# EAGLE library part MOLEX_SL_11 (library molex-sl-connectors_jw)
Molex SL-Series PCB Header, 11-Pos, 0.1" (2.54mm) Centers
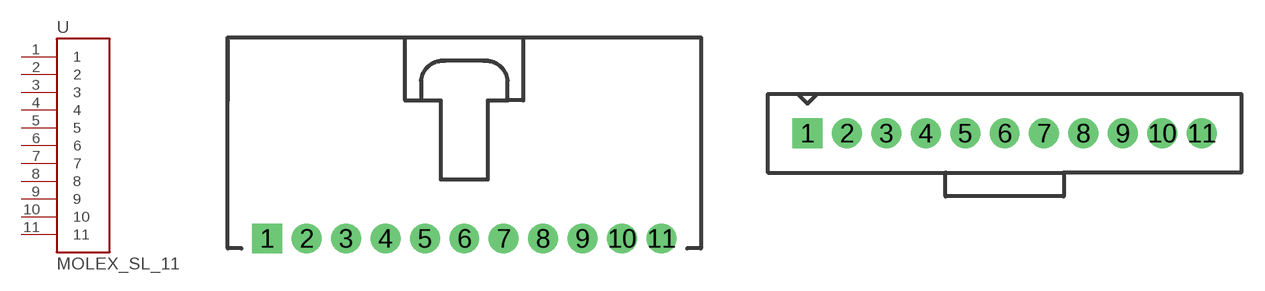
[diagram p5: symbol with the pads of SL_70553_11; footprints SL_70553_11, SL_70543_11]

Designator prefix -

## MOLEX_SL_11-70553  [SL_70553_11]
1  1
2  2
3  3
4  4
5  5
6  6
7  7
8  8
9  9
10  10
11  11

## MOLEX_SL_11-70543-74095  [SL_70543_11]
Pads as for SL_70553_11

## MOLEX_SL_11-70541-70545  [SL_70541_11]
Pads as for SL_70553_11

## MOLEX_SL_11-70551  [SL_70551_11]
Pads as for SL_70553_11

## MOLEX_SL_11-70555  [SL_70555_11]
Pads as for SL_70553_11

## MOLEX_SL_11-70634  [SL_70634_11]
Pads as for SL_70553_11

## MOLEX_SL_11-74099  [SL_74099_11]
Pads as for SL_70553_11

## MOLEX_SL_11-87898  [SL_87898_11]
Pads as for SL_70553_11

## Footprint SL_70553_11 (pad centres in mm)
Right-Angle Header w/ Latch (no pegs) 70553-0010 70553-0045 70553-0115 70553-0150
drill 1.1 pad 1.93 square: 1 -12.7,-5.08
drill 1.1 pad 1.93: 2 -10.16,-5.08; 3 -7.62,-5.08; 4 -5.08,-5.08; 5 -2.54,-5.08; 6 0,-5.08; 7 2.54,-5.08; 8 5.08,-5.08; 9 7.62,-5.08; 10 10.16,-5.08; 11 12.7,-5.08

## Footprint SL_70543_11 (pad centres in mm)
Vertical Header w/ Latch & Optional Compliant Pins (no pegs) Normal Pins: 70543-0010 70543-0045 70543-0080 70543-0115 70543-0150 70543-0174 70543-0209 70543-0257 70543-0281 70543-0305 Compliant Pins 74095-0011 74095-0041 74095-0071 74095-1041 74095-1071
drill 1.1 pad 1.93 square: 1 -12.7,1.27
drill 1.1 pad 1.93: 2 -10.16,1.27; 3 -7.62,1.27; 4 -5.08,1.27; 5 -2.54,1.27; 6 0,1.27; 7 2.54,1.27; 8 5.08,1.27; 9 7.62,1.27; 10 10.16,1.27; 11 12.7,1.27

## Footprint SL_70541_11 (pad centres in mm)
Vertical Header w/ Latch & Pegs With Split Pegs: 70541-0010 70541-0045 70541-0080 With Tri-Pegs: 70545-0010 70545-0045 70545-0080
drill 1.1 pad 1.93 square: 1 -12.7,1.27
drill 1.1 pad 1.93: 2 -10.16,1.27; 3 -7.62,1.27; 4 -5.08,1.27; 5 -2.54,1.27; 6 0,1.27; 7 2.54,1.27; 8 5.08,1.27; 9 7.62,1.27; 10 10.16,1.27; 11 12.7,1.27
hole 3.404 at -16.764,0.508
hole 3.404 at 16.764,0.508

## Footprint SL_70551_11 (pad centres in mm)
Right-Angle Header w/ Latch & Split Pegs 70551-0010 70551-0045 70551-0080
drill 1.1 pad 1.93 square: 1 -12.7,-5.08
drill 1.1 pad 1.93: 2 -10.16,-5.08; 3 -7.62,-5.08; 4 -5.08,-5.08; 5 -2.54,-5.08; 6 0,-5.08; 7 2.54,-5.08; 8 5.08,-5.08; 9 7.62,-5.08; 10 10.16,-5.08; 11 12.7,-5.08
hole 3.404 at -13.97,3.556
hole 3.404 at 13.97,3.556

## Footprint SL_70555_11 (pad centres in mm)
Right-Angle Header w/ Latch & Tri-Pegs 70555-0010 70555-0045 70555-0080 70555-5010
drill 1.1 pad 1.93 square: 1 -12.7,-5.08
drill 1.1 pad 1.93: 2 -10.16,-5.08; 3 -7.62,-5.08; 4 -5.08,-5.08; 5 -2.54,-5.08; 6 0,-5.08; 7 2.54,-5.08; 8 5.08,-5.08; 9 7.62,-5.08; 10 10.16,-5.08; 11 12.7,-5.08
hole 3.404 at -14.097,3.556
hole 3.404 at 14.097,3.556

## Footprint SL_70634_11 (pad centres in mm)
SMD Right-Angle Header w/ Latch & PCB Pegs 70634-0010 70634-0045 70634-0080 70634-0115 70634-0150 70634-0185 70634-0211
smd 1.651 x 5.334: 1 -12.7,-7.62; 2 -10.16,-7.62; 3 -7.62,-7.62; 4 -5.08,-7.62; 5 -2.54,-7.62; 6 0,-7.62; 7 2.54,-7.62; 8 5.08,-7.62; 9 7.62,-7.62; 10 10.16,-7.62; 11 12.7,-7.62
hole 3.404 at -14.122,3.048
hole 3.404 at 14.097,3.099

## Footprint SL_74099_11 (pad centres in mm)
SMD Vertical Header w/ Latch & PCB Pegs Package also includes Pick-N-Place Cap 74099-0611 74099-0631 74099-0651
smd 1.27 x 3.175: 1 -12.7,-2.108; 2 -10.16,2.108; 3 -7.62,-2.108; 4 -5.08,2.108; 5 -2.54,-2.108; 6 0,2.108; 7 2.54,-2.108; 8 5.08,2.108; 9 7.62,-2.108; 10 10.16,2.108; 11 12.7,-2.108

## Footprint SL_87898_11 (pad centres in mm)
SMD Vertical Header (no latch or pegs) Package also includes Pick-N-Place Cap Tube packaging w/o Pick-N-Place Cap: 87898-1121 87898-1122 87898-1124 87898-1125 87898-1126 Tube packaging w/ Pick-N-Place Cap: 87898-1131 87898-1132 87898-1134 87898-1135 87898-1136 Tape & Reel packaging w/ Pick-N-Place Cap: 87898-1151 87898-1152 87898-1154 87898-1155 87898-1156
smd 1.27 x 2.946: 1 -12.7,1.803; 2 -10.16,-1.803; 3 -7.62,1.803; 4 -5.08,-1.803; 5 -2.54,1.803; 6 0,-1.803; 7 2.54,1.803; 8 5.08,-1.803; 9 7.62,1.803; 10 10.16,-1.803; 11 12.7,1.803